# EAGLE library part LTC7103-1 (library Analog Devices)
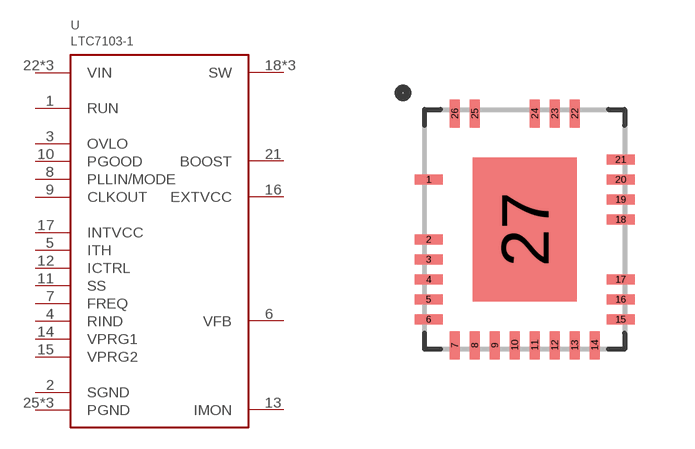
[diagram p57: symbol with the pads of QFN26; footprint QFN26]

Designator prefix U

## LTC7103-1  [QFN26]
1  RUN
2  SGND
3  OVLO
4  RIND
5  ITH
6  VFB
7  FREQ
8  PLLIN/MODE
9  CLKOUT
10  PGOOD
11  SS
12  ICTRL
13  IMON
14  VPRG1
15  VPRG2
16  EXTVCC
17  INTVCC
18  SW
19  SW
20  SW
21  BOOST
22  VIN
23  VIN
24  VIN
25  PGND
26  PGND
27  PGND

## Footprint QFN26 (pad centres in mm)
smd 0.7 x 0.25: 1 -2.4,1.25; 2 -2.4,-0.25; 3 -2.4,-0.75; 4 -2.4,-1.25; 5 -2.4,-1.75; 6 -2.4,-2.25; 15 2.4,-2.25; 16 2.4,-1.75; 17 2.4,-1.25; 18 2.4,0.25; 19 2.4,0.75; 20 2.4,1.25; 21 2.4,1.75
smd 0.25 x 0.7: 7 -1.75,-2.9; 8 -1.25,-2.9; 9 -0.75,-2.9; 10 -0.25,-2.9; 11 0.25,-2.9; 12 0.75,-2.9; 13 1.25,-2.9; 14 1.75,-2.9; 22 1.25,2.9; 23 0.75,2.9; 24 0.25,2.9; 25 -1.25,2.9; 26 -1.75,2.9
smd 2.6 x 3.6: 27 0,0